# EAGLE library part TPS259802ONRGER (library TPS259802ONRGER)
Hot Swap Voltage Controllers 2.7-V to 24-V, 8-A, 3-mO smart eFuse with adjustable transient fault management Source: Datasheet <https://www.ti.com/lit/gpn/tps25980?HQS=ti-null-null-sf-df-pf-sep-wwe&DCM=yes>
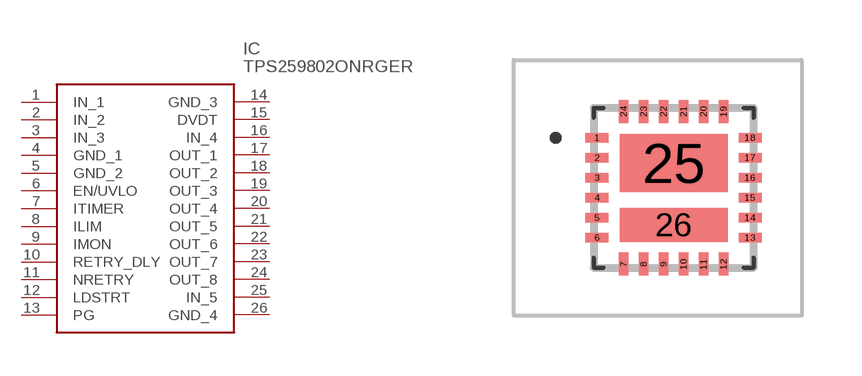
[diagram p0: symbol with the pads of TPS259802ONRGER; footprint TPS259802ONRGER]

Designator prefix IC

## TPS259802ONRGER (Description: Hot Swap Voltage Controllers 2.7-V to 24-V, 8-A, 3-mO smart eFuse with adjustable transient fault management; Height: 1mm; Manufacturer_Name: Texas Instruments; Manufacturer_Part_Number: TPS259802ONRGER; Mouser_Part_Number: 595-TPS259802ONRGER; Mouser_Price-Stock: https://www.mouser.co.uk/ProductDetail/Texas-Instruments/TPS259802ONRGER?qs=hWgE7mdIu5R0hcZums61iA%3D%3D)  [TPS259802ONRGER]
1  IN_1
2  IN_2
3  IN_3
4  GND_1
5  GND_2
6  EN/UVLO
7  ITIMER
8  ILIM
9  IMON
10  RETRY_DLY
11  NRETRY
12  LDSTRT
13  PG
14  GND_3
15  DVDT
16  IN_4
17  OUT_1
18  OUT_2
19  OUT_3
20  OUT_4
21  OUT_5
22  OUT_6
23  OUT_7
24  OUT_8
25  IN_5
26  GND_4

## Footprint TPS259802ONRGER (pad centres in mm)
TPS259802ONRGER-4
smd 0.575 x 0.24: 1 -1.913,1.25; 2 -1.913,0.75; 3 -1.913,0.25; 4 -1.913,-0.25; 5 -1.913,-0.75; 6 -1.913,-1.25; 13 1.913,-1.25; 14 1.913,-0.75; 15 1.913,-0.25; 16 1.913,0.25; 17 1.913,0.75; 18 1.913,1.25
smd 0.24 x 0.575: 7 -1.25,-1.912; 8 -0.75,-1.912; 9 -0.25,-1.912; 10 0.25,-1.912; 11 0.75,-1.912; 12 1.25,-1.912; 19 1.25,1.912; 20 0.75,1.912; 21 0.25,1.912; 22 -0.25,1.912; 23 -0.75,1.912; 24 -1.25,1.912
smd 2.7 x 1.45: 25 0,0.625
smd 2.7 x 0.85: 26 0,-0.925